# Altium schematic symbol library XTAL.Schlib: 2 symbols
Pins are listed as number, name and electrical type; pins without a type are passive.

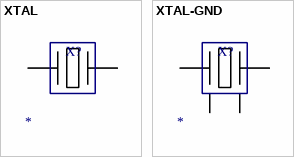
[diagram p0: symbols XTAL to XTAL-GND]

## XTAL
designator X?, comment Xtal  (value not drawn)
*; Value: *
pins: 1, 2 3

## XTAL-GND
designator X?, comment Xtal  (value not drawn)
*; Value: *
pins: 1, 2, 3, 4